# Altium integrated library Analog Devices Data Converters Analog-to-Digital Converters.IntLib: 2404 symbols (part 296 of 346)
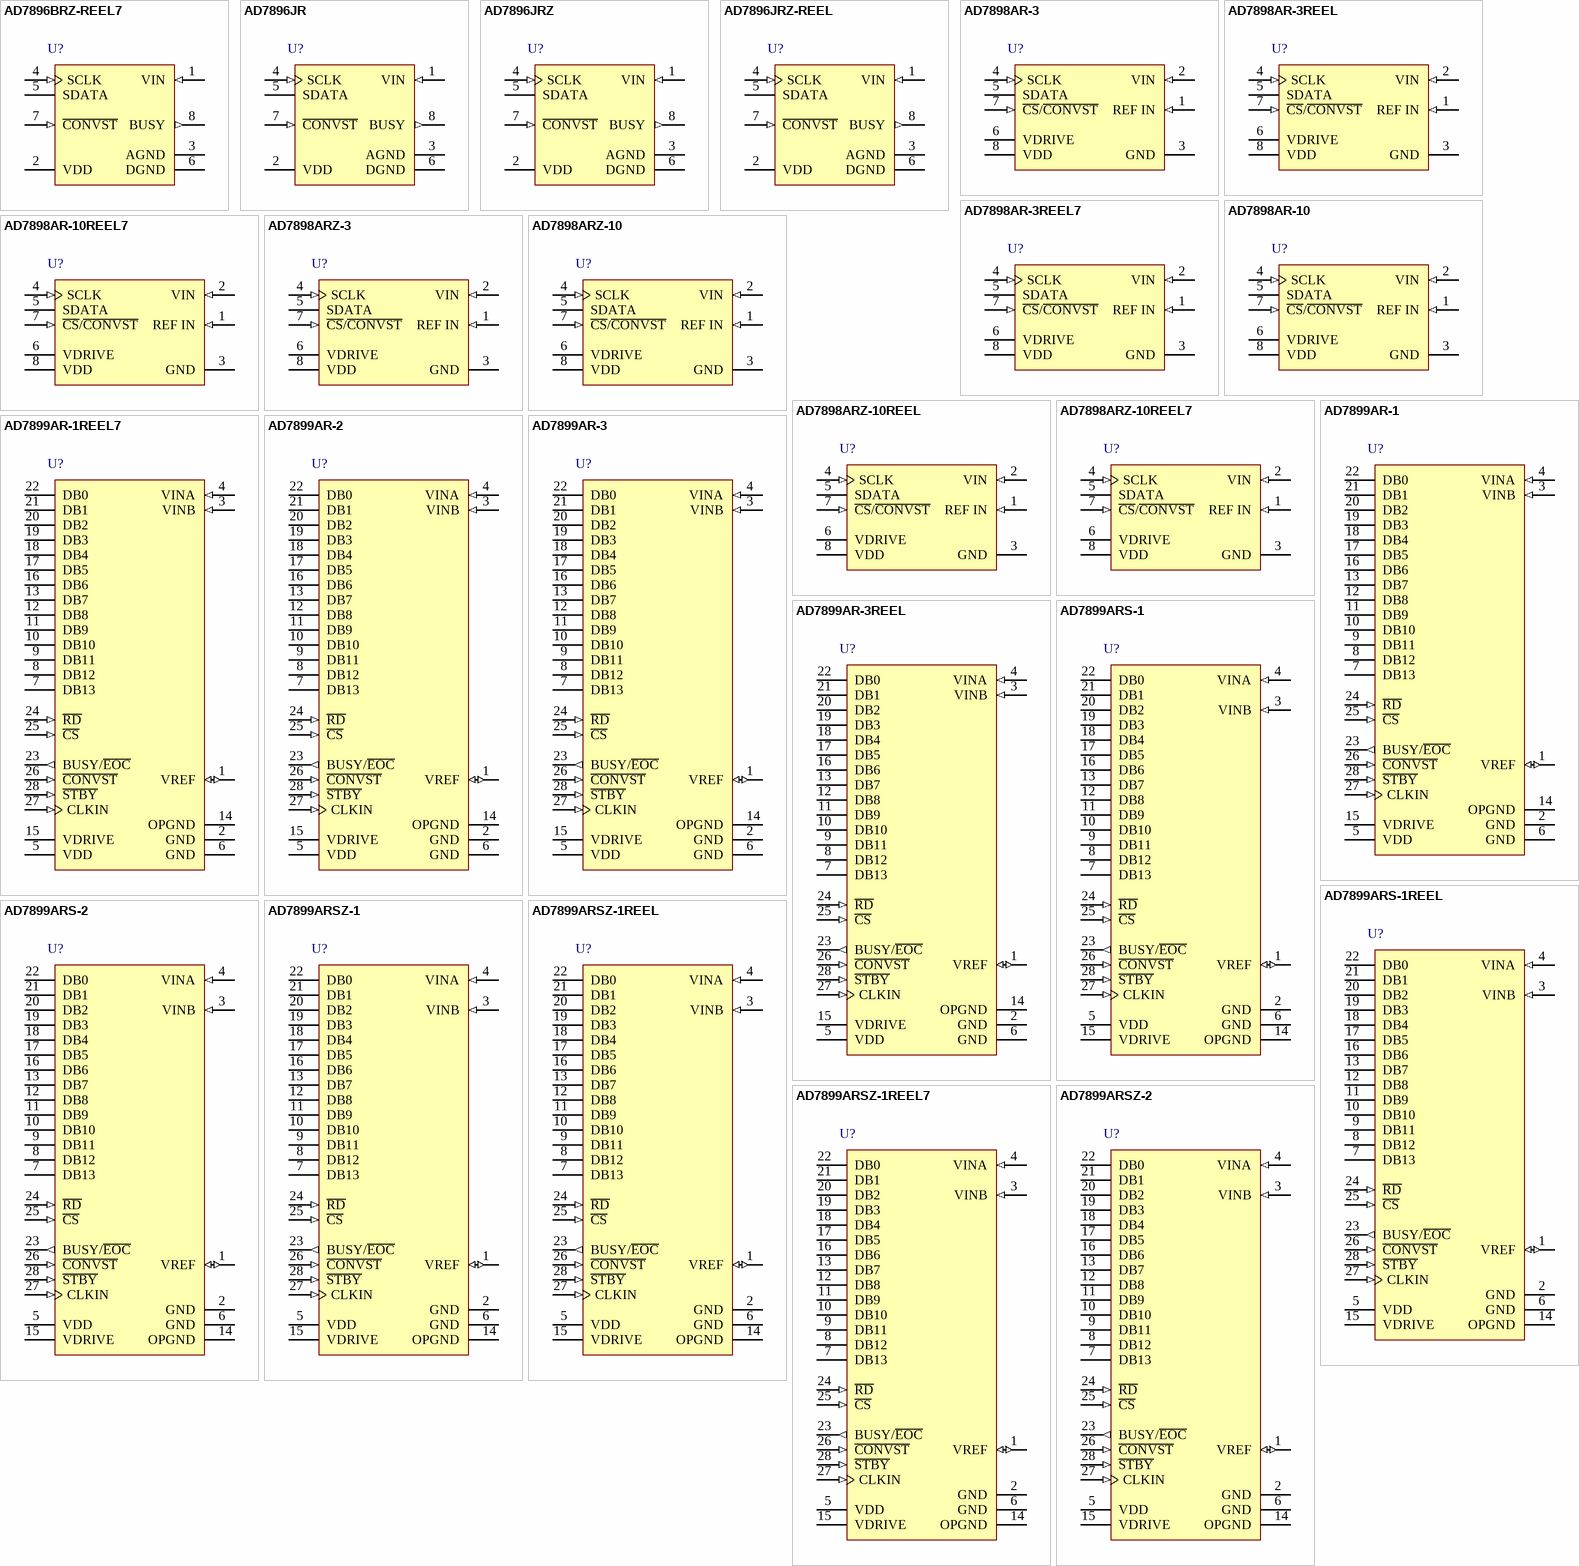
[diagram p413: symbols AD7896BRZ-REEL7 to AD7899ARSZ-2]

## AD7898ARZ-10
designator U?
Single 12-Bit Analog-to-Digital Converter with Serial Interface, 220KSPS, -40 to +85 degC, R-8, Pb-Free, Tube; Generic Part Number: AD7898; Manufacturer: Analog Devices; PartNumber: AD7898ARZ-10; Resolution (Bits): 12; Channels: 1; Throughput Rate (SPS): 220K; Interface: Ser; DatasheetVersion: Rev.A; PackageVersion: 060506-A; PackageReference: R-8; PackageDescription: 8-Lead Standard Small Outline Package [SOIC_N] Narrow Body; Supplier 1: Digi-Key; Supplier Part Number 1: AD7898ARZ-10-ND; Supplier 2: Newark; Supplier Part Number 2: 88H0076; Supplier 3: Mouser; Supplier Part Number 3: 584-AD7898ARZ-10; RoHS: Y; Packing: Tube; Mounting Technology: Surface Mount; Code_JEDEC: MS-012-AA; Code_IPC: SOIC127P600-8; ComponentLink1Description: Manufacturer URL; ComponentLink1URL: http://www.analog.com/en/index.html; ComponentLink2Description: Datasheet; ComponentLink2URL: http://www.analog.com/static/imported-files/data_sheets/AD7898.pdf; ComponentLink3Description: Package Specification; ComponentLink3URL: http://www.analog.com/static/imported-files/packages/PKG_PDF/SOIC_Narrow%20(R)/R_8.pdf; ComponentLink4Description: Product URL; ComponentLink4URL: http://www.analog.com/en/analog-to-digital-converters/ad-converters/ad7898/products/product.html
footprint R-8_N (SOIC, 8-Leads, Body 4.9x3.9mm, Pitch 1.27mm, IPC Medium Density)
footprint R-8_L (SOIC, 8-Leads, Body 4.9x3.9mm, Pitch 1.27mm, IPC High Density)
footprint R-8_M (SOIC, 8-Leads, Body 4.9x3.9mm, Pitch 1.27mm, IPC Low Density)
pins: 1 REF IN (in) "Voltage Reference Input. An external reference source should be connected to this pin to provide the reference voltage for the AD7898’s conversion process. The REF IN input is buffered on-chip. The nominal reference voltage (See Datasheet)", 2 VIN (in) "Analog Input Channel. The analog input range is +/-10 V (AD7898-10) and +/-2.5 V (AD7898-3).", 3 GND (power) "Analog Ground. Ground reference for track/hold, comparator, digital circuitry, and DAC.", 4 SCLK (in) "Serial Clock Input. An external serial clock is applied to this input to obtain serial data from the AD7898. When in Mode 0 operation, a new serial data bit is clocked out on the falling edge of this serial clock. In Mode 0, (See Datasheet)", 5 SDATA (hiz) "Serial Data Output. Serial data from the AD7898 is provided at this output. The serial data is clocked out by the falling edge of SCLK, but the data can also be read on the falling edge of SCLK. This is possible because data (See Datasheet)", 6 VDRIVE (power) "Logic Power Supply Input. The voltage supplied at this pin determines at what voltage the serial interface of the AD7898 will operate.", 7 ~{CS}/~{CONVST} (in) "Chip Select/Convert Start. This pin is C\O\N\V\S\T\, an edge-triggered logic input when in Mode 0 operation. On the falling edge of this input, the track/hold goes into its hold mode, and conversion is initiated. When in (See Datasheet)", 8 VDD (power) "Power Supply Input, 5 V +/- 5%."

## AD7898ARZ-10REEL
designator U?
Single 12-Bit Analog-to-Digital Converter with Serial Interface, 220KSPS, -40 to +85 degC, R-8, Pb-Free, Reel; Generic Part Number: AD7898; Manufacturer: Analog Devices; PartNumber: AD7898ARZ-10REEL; Resolution (Bits): 12; Channels: 1; Throughput Rate (SPS): 220K; Interface: Ser; DatasheetVersion: Rev.A; PackageVersion: 060506-A; PackageReference: R-8; PackageDescription: 8-Lead Standard Small Outline Package [SOIC_N] Narrow Body; Supplier 1: Digi-Key; Supplier Part Number 1: AD7898ARZ-10REEL-ND; Supplier 2: Mouser; Supplier Part Number 2: 584-AD7898ARZ-10R; RoHS: Y; Packing: Reel; Mounting Technology: Surface Mount; Code_JEDEC: MS-012-AA; Code_IPC: SOIC127P600-8; ComponentLink1Description: Manufacturer URL; ComponentLink1URL: http://www.analog.com/en/index.html; ComponentLink2Description: Datasheet; ComponentLink2URL: http://www.analog.com/static/imported-files/data_sheets/AD7898.pdf; ComponentLink3Description: Package Specification; ComponentLink3URL: http://www.analog.com/static/imported-files/packages/PKG_PDF/SOIC_Narrow%20(R)/R_8.pdf; ComponentLink4Description: Product URL; ComponentLink4URL: http://www.analog.com/en/analog-to-digital-converters/ad-converters/ad7898/products/product.html
footprint R-8_N (SOIC, 8-Leads, Body 4.9x3.9mm, Pitch 1.27mm, IPC Medium Density)
footprint R-8_L (SOIC, 8-Leads, Body 4.9x3.9mm, Pitch 1.27mm, IPC High Density)
footprint R-8_M (SOIC, 8-Leads, Body 4.9x3.9mm, Pitch 1.27mm, IPC Low Density)
pins: 1 REF IN (in) "Voltage Reference Input. An external reference source should be connected to this pin to provide the reference voltage for the AD7898’s conversion process. The REF IN input is buffered on-chip. The nominal reference voltage (See Datasheet)", 2 VIN (in) "Analog Input Channel. The analog input range is +/-10 V (AD7898-10) and +/-2.5 V (AD7898-3).", 3 GND (power) "Analog Ground. Ground reference for track/hold, comparator, digital circuitry, and DAC.", 4 SCLK (in) "Serial Clock Input. An external serial clock is applied to this input to obtain serial data from the AD7898. When in Mode 0 operation, a new serial data bit is clocked out on the falling edge of this serial clock. In Mode 0, (See Datasheet)", 5 SDATA (hiz) "Serial Data Output. Serial data from the AD7898 is provided at this output. The serial data is clocked out by the falling edge of SCLK, but the data can also be read on the falling edge of SCLK. This is possible because data (See Datasheet)", 6 VDRIVE (power) "Logic Power Supply Input. The voltage supplied at this pin determines at what voltage the serial interface of the AD7898 will operate.", 7 ~{CS}/~{CONVST} (in) "Chip Select/Convert Start. This pin is C\O\N\V\S\T\, an edge-triggered logic input when in Mode 0 operation. On the falling edge of this input, the track/hold goes into its hold mode, and conversion is initiated. When in (See Datasheet)", 8 VDD (power) "Power Supply Input, 5 V +/- 5%."

## AD7898ARZ-10REEL7
designator U?
Single 12-Bit Analog-to-Digital Converter with Serial Interface, 220KSPS, -40 to +85 degC, R-8, Pb-Free, Reel; Generic Part Number: AD7898; Manufacturer: Analog Devices; PartNumber: AD7898ARZ-10REEL7; Resolution (Bits): 12; Channels: 1; Throughput Rate (SPS): 220K; Interface: Ser; DatasheetVersion: Rev.A; PackageVersion: 060506-A; PackageReference: R-8; PackageDescription: 8-Lead Standard Small Outline Package [SOIC_N] Narrow Body; Supplier 1: Digi-Key; Supplier Part Number 1: AD7898ARZ-10REEL7-ND; RoHS: Y; Packing: Reel; Mounting Technology: Surface Mount; Code_JEDEC: MS-012-AA; Code_IPC: SOIC127P600-8; ComponentLink1Description: Manufacturer URL; ComponentLink1URL: http://www.analog.com/en/index.html; ComponentLink2Description: Datasheet; ComponentLink2URL: http://www.analog.com/static/imported-files/data_sheets/AD7898.pdf; ComponentLink3Description: Package Specification; ComponentLink3URL: http://www.analog.com/static/imported-files/packages/PKG_PDF/SOIC_Narrow%20(R)/R_8.pdf; ComponentLink4Description: Product URL; ComponentLink4URL: http://www.analog.com/en/analog-to-digital-converters/ad-converters/ad7898/products/product.html
footprint R-8_N (SOIC, 8-Leads, Body 4.9x3.9mm, Pitch 1.27mm, IPC Medium Density)
footprint R-8_L (SOIC, 8-Leads, Body 4.9x3.9mm, Pitch 1.27mm, IPC High Density)
footprint R-8_M (SOIC, 8-Leads, Body 4.9x3.9mm, Pitch 1.27mm, IPC Low Density)
pins: 1 REF IN (in) "Voltage Reference Input. An external reference source should be connected to this pin to provide the reference voltage for the AD7898’s conversion process. The REF IN input is buffered on-chip. The nominal reference voltage (See Datasheet)", 2 VIN (in) "Analog Input Channel. The analog input range is +/-10 V (AD7898-10) and +/-2.5 V (AD7898-3).", 3 GND (power) "Analog Ground. Ground reference for track/hold, comparator, digital circuitry, and DAC.", 4 SCLK (in) "Serial Clock Input. An external serial clock is applied to this input to obtain serial data from the AD7898. When in Mode 0 operation, a new serial data bit is clocked out on the falling edge of this serial clock. In Mode 0, (See Datasheet)", 5 SDATA (hiz) "Serial Data Output. Serial data from the AD7898 is provided at this output. The serial data is clocked out by the falling edge of SCLK, but the data can also be read on the falling edge of SCLK. This is possible because data (See Datasheet)", 6 VDRIVE (power) "Logic Power Supply Input. The voltage supplied at this pin determines at what voltage the serial interface of the AD7898 will operate.", 7 ~{CS}/~{CONVST} (in) "Chip Select/Convert Start. This pin is C\O\N\V\S\T\, an edge-triggered logic input when in Mode 0 operation. On the falling edge of this input, the track/hold goes into its hold mode, and conversion is initiated. When in (See Datasheet)", 8 VDD (power) "Power Supply Input, 5 V +/- 5%."

## AD7899AR-1
designator U?
Single 14-Bit Analog-to-Digital Converter with Parallel Interface, 5 V 400KSPS, -40 to +85 degC, RW-28, Tube; Generic Part Number: AD7899; Manufacturer: Analog Devices; PartNumber: AD7899AR-1; Resolution (Bits): 14; Channels: 1; Throughput Rate (SPS): 400K; Interface: Par; DatasheetVersion: Rev.A; PackageVersion: 060706-A; PackageReference: RW-28; PackageDescription: 28-Lead Standard Small Outline Package [SOIC_W]; Supplier 1: Digi-Key; Supplier Part Number 1: AD7899AR-1-ND; Supplier 2: Mouser; Supplier Part Number 2: 584-AD7899AR-1; RoHS: N; Packing: Tube; Mounting Technology: Surface Mount; Code_JEDEC: MS-013-AE; ComponentLink1Description: Manufacturer URL; ComponentLink1URL: http://www.analog.com/en/index.html; ComponentLink2Description: Datasheet; ComponentLink2URL: http://www.analog.com/static/imported-files/data_sheets/AD7899.pdf; ComponentLink3Description: Package Specification; ComponentLink3URL: http://www.analog.com/static/imported-files/packages/35833120341221RW_28.pdf; ComponentLink4Description: Product URL; ComponentLink4URL: http://www.analog.com/en/analog-to-digital-converters/ad-converters/ad7899/products/product.html
footprint RW-28_N (SOIC, 28-Leads, Body 17.9x7.5mm, Pitch 1.27mm, IPC Medium Density)
footprint RW-28_L (SOIC, 28-Leads, Body 17.9x7.5mm, Pitch 1.27mm, IPC High Density)
footprint RW-28_M (SOIC, 28-Leads, Body 17.9x7.5mm, Pitch 1.27mm, IPC Low Density)
pins: 1 VREF (io) "Reference Input/Output. This pin is provides access to the internal reference (2.5 V +/- 20 mV) and also allows the internal reference to be overdriven by an external reference source (2.5 V +/- 5%). A 0.1 uF decoupling (See Datasheet)", 2 GND (power) "Ground Pin. This pin should be connected to the system’s analog ground plane.", 3 VINB (in) "Analog Inputs. See Analog Input Section.", 4 VINA (in) "Analog Inputs. See Analog Input Section.", 5 VDD (power) "Positive Supply Voltage, 5.0 V +/- 5%.", 6 GND (power) "Ground Pin. This pin should be connected to the system’s analog ground plane.", 7 DB13 (hiz) "Data Bit 13 is the MSB, followed by Data Bit 12 to Data Bit 7. Three-state outputs.", 8 DB12 (hiz) "Data Bit 13 is the MSB, followed by Data Bit 12 to Data Bit 7. Three-state outputs.", 9 DB11 (hiz) "Data Bit 13 is the MSB, followed by Data Bit 12 to Data Bit 7. Three-state outputs.", 10 DB10 (hiz) "Data Bit 13 is the MSB, followed by Data Bit 12 to Data Bit 7. Three-state outputs.", 11 DB9 (hiz) "Data Bit 13 is the MSB, followed by Data Bit 12 to Data Bit 7. Three-state outputs.", 12 DB8 (hiz) "Data Bit 13 is the MSB, followed by Data Bit 12 to Data Bit 7. Three-state outputs.", 13 DB7 (hiz) "Data Bit 13 is the MSB, followed by Data Bit 12 to Data Bit 7. Three-state outputs.", 14 OPGND (power) "Output Driver Ground. This is the ground pin of the output drivers for D13 to D0 and BUSY/E\O\C\. It should be connected to the system’s analog ground plane .", 15 VDRIVE (power) "This pin provides the positive supply voltage for the digital inputs and outputs. It is normally tied to VDD but may also be powered by a 3 V +/- 10% supply which allows the inputs and outputs to be interfaced to 3 V (See Datasheet)", 16 DB6 (hiz) "Data Bit 6 to Data Bit 0. Three-state Outputs.", 17 DB5 (hiz) "Data Bit 6 to Data Bit 0. Three-state Outputs.", 18 DB4 (hiz) "Data Bit 6 to Data Bit 0. Three-state Outputs.", 19 DB3 (hiz) "Data Bit 6 to Data Bit 0. Three-state Outputs.", 20 DB2 (hiz) "Data Bit 6 to Data Bit 0. Three-state Outputs.", 21 DB1 (hiz) "Data Bit 6 to Data Bit 0. Three-state Outputs.", 22 DB0 (hiz) "Data Bit 6 to Data Bit 0. Three-state Outputs.", 23 BUSY/~{EOC} (out) "BUSY/E\O\C\ Output. Digital output pin used to signify that a conversion is in progress or that a conversion has finished. The function of the BUSY/E\O\C\ is determined by the state of C\O\N\V\S\T\ at the end of conversion. (See Datasheet)", 24 ~{RD} (in) "Read Input. Active low logic input which is used in conjunction with C\S\ low to enable the data outputs.", 25 ~{CS} (in) "Chip Select Input. Active low logic input. The device is selected when this input is active.", 26 ~{CONVST} (in) "Convert Start Input. Logic Input. A low to high transition on this input puts the track/hold into hold mode and starts conversion.", 27 CLKIN (in) "Conversion Clock Input. CLKIN is an externally applied clock which allows the user to control the conversion rate of the AD7899. If the CLKIN input is high on the rising edge of C\O\N\V\S\T\ an externally applied clock will (See Datasheet)", 28 ~{STBY} (in) "Standby Mode Input. Logic input which is used to put the device into the power save or standby mode. The S\T\B\Y\ input is high for normal operation and low for standby operation."

## AD7899AR-1REEL7
designator U?
Single 14-Bit Analog-to-Digital Converter with Parallel Interface, 5 V 400KSPS, -40 to +85 degC, RW-28, Reel; Generic Part Number: AD7899; Manufacturer: Analog Devices; PartNumber: AD7899AR-1REEL7; Resolution (Bits): 14; Channels: 1; Throughput Rate (SPS): 400K; Interface: Par; DatasheetVersion: Rev.A; PackageVersion: 060706-A; PackageReference: RW-28; PackageDescription: 28-Lead Standard Small Outline Package [SOIC_W]; Supplier 1: Mouser; Supplier Part Number 1: N/A; RoHS: N; Packing: Reel; Mounting Technology: Surface Mount; Code_JEDEC: MS-013-AE; ComponentLink1Description: Manufacturer URL; ComponentLink1URL: http://www.analog.com/en/index.html; ComponentLink2Description: Datasheet; ComponentLink2URL: http://www.analog.com/static/imported-files/data_sheets/AD7899.pdf; ComponentLink3Description: Package Specification; ComponentLink3URL: http://www.analog.com/static/imported-files/packages/35833120341221RW_28.pdf; ComponentLink4Description: Product URL; ComponentLink4URL: http://www.analog.com/en/analog-to-digital-converters/ad-converters/ad7899/products/product.html
footprint RW-28_N (SOIC, 28-Leads, Body 17.9x7.5mm, Pitch 1.27mm, IPC Medium Density)
footprint RW-28_L (SOIC, 28-Leads, Body 17.9x7.5mm, Pitch 1.27mm, IPC High Density)
footprint RW-28_M (SOIC, 28-Leads, Body 17.9x7.5mm, Pitch 1.27mm, IPC Low Density)
pins: 1 VREF (io) "Reference Input/Output. This pin is provides access to the internal reference (2.5 V +/- 20 mV) and also allows the internal reference to be overdriven by an external reference source (2.5 V +/- 5%). A 0.1 uF decoupling (See Datasheet)", 2 GND (power) "Ground Pin. This pin should be connected to the system’s analog ground plane.", 3 VINB (in) "Analog Inputs. See Analog Input Section.", 4 VINA (in) "Analog Inputs. See Analog Input Section.", 5 VDD (power) "Positive Supply Voltage, 5.0 V +/- 5%.", 6 GND (power) "Ground Pin. This pin should be connected to the system’s analog ground plane.", 7 DB13 (hiz) "Data Bit 13 is the MSB, followed by Data Bit 12 to Data Bit 7. Three-state outputs.", 8 DB12 (hiz) "Data Bit 13 is the MSB, followed by Data Bit 12 to Data Bit 7. Three-state outputs.", 9 DB11 (hiz) "Data Bit 13 is the MSB, followed by Data Bit 12 to Data Bit 7. Three-state outputs.", 10 DB10 (hiz) "Data Bit 13 is the MSB, followed by Data Bit 12 to Data Bit 7. Three-state outputs.", 11 DB9 (hiz) "Data Bit 13 is the MSB, followed by Data Bit 12 to Data Bit 7. Three-state outputs.", 12 DB8 (hiz) "Data Bit 13 is the MSB, followed by Data Bit 12 to Data Bit 7. Three-state outputs.", 13 DB7 (hiz) "Data Bit 13 is the MSB, followed by Data Bit 12 to Data Bit 7. Three-state outputs.", 14 OPGND (power) "Output Driver Ground. This is the ground pin of the output drivers for D13 to D0 and BUSY/E\O\C\. It should be connected to the system’s analog ground plane .", 15 VDRIVE (power) "This pin provides the positive supply voltage for the digital inputs and outputs. It is normally tied to VDD but may also be powered by a 3 V +/- 10% supply which allows the inputs and outputs to be interfaced to 3 V (See Datasheet)", 16 DB6 (hiz) "Data Bit 6 to Data Bit 0. Three-state Outputs.", 17 DB5 (hiz) "Data Bit 6 to Data Bit 0. Three-state Outputs.", 18 DB4 (hiz) "Data Bit 6 to Data Bit 0. Three-state Outputs.", 19 DB3 (hiz) "Data Bit 6 to Data Bit 0. Three-state Outputs.", 20 DB2 (hiz) "Data Bit 6 to Data Bit 0. Three-state Outputs.", 21 DB1 (hiz) "Data Bit 6 to Data Bit 0. Three-state Outputs.", 22 DB0 (hiz) "Data Bit 6 to Data Bit 0. Three-state Outputs.", 23 BUSY/~{EOC} (out) "BUSY/E\O\C\ Output. Digital output pin used to signify that a conversion is in progress or that a conversion has finished. The function of the BUSY/E\O\C\ is determined by the state of C\O\N\V\S\T\ at the end of conversion. (See Datasheet)", 24 ~{RD} (in) "Read Input. Active low logic input which is used in conjunction with C\S\ low to enable the data outputs.", 25 ~{CS} (in) "Chip Select Input. Active low logic input. The device is selected when this input is active.", 26 ~{CONVST} (in) "Convert Start Input. Logic Input. A low to high transition on this input puts the track/hold into hold mode and starts conversion.", 27 CLKIN (in) "Conversion Clock Input. CLKIN is an externally applied clock which allows the user to control the conversion rate of the AD7899. If the CLKIN input is high on the rising edge of C\O\N\V\S\T\ an externally applied clock will (See Datasheet)", 28 ~{STBY} (in) "Standby Mode Input. Logic input which is used to put the device into the power save or standby mode. The S\T\B\Y\ input is high for normal operation and low for standby operation."

## AD7899AR-2
designator U?
Single 14-Bit Analog-to-Digital Converter with Parallel Interface, 5 V 400KSPS, -40 to +85 degC, RW-28, Tube; Generic Part Number: AD7899; Manufacturer: Analog Devices; PartNumber: AD7899AR-2; Resolution (Bits): 14; Channels: 1; Throughput Rate (SPS): 400K; Interface: Par; DatasheetVersion: Rev.A; PackageVersion: 060706-A; PackageReference: RW-28; PackageDescription: 28-Lead Standard Small Outline Package [SOIC_W]; Supplier 1: Digi-Key; Supplier Part Number 1: AD7899AR-2-ND; Supplier 2: Newark; Supplier Part Number 2: 34C4942; RoHS: N; Packing: Tube; Mounting Technology: Surface Mount; Code_JEDEC: MS-013-AE; ComponentLink1Description: Manufacturer URL; ComponentLink1URL: http://www.analog.com/en/index.html; ComponentLink2Description: Datasheet; ComponentLink2URL: http://www.analog.com/static/imported-files/data_sheets/AD7899.pdf; ComponentLink3Description: Package Specification; ComponentLink3URL: http://www.analog.com/static/imported-files/packages/35833120341221RW_28.pdf; ComponentLink4Description: Product URL; ComponentLink4URL: http://www.analog.com/en/analog-to-digital-converters/ad-converters/ad7899/products/product.html
footprint RW-28_N (SOIC, 28-Leads, Body 17.9x7.5mm, Pitch 1.27mm, IPC Medium Density)
footprint RW-28_L (SOIC, 28-Leads, Body 17.9x7.5mm, Pitch 1.27mm, IPC High Density)
footprint RW-28_M (SOIC, 28-Leads, Body 17.9x7.5mm, Pitch 1.27mm, IPC Low Density)
pins: 1 VREF (io) "Reference Input/Output. This pin is provides access to the internal reference (2.5 V +/- 20 mV) and also allows the internal reference to be overdriven by an external reference source (2.5 V +/- 5%). A 0.1 uF decoupling (See Datasheet)", 2 GND (power) "Ground Pin. This pin should be connected to the system’s analog ground plane.", 3 VINB (in) "Analog Inputs. See Analog Input Section.", 4 VINA (in) "Analog Inputs. See Analog Input Section.", 5 VDD (power) "Positive Supply Voltage, 5.0 V +/- 5%.", 6 GND (power) "Ground Pin. This pin should be connected to the system’s analog ground plane.", 7 DB13 (hiz) "Data Bit 13 is the MSB, followed by Data Bit 12 to Data Bit 7. Three-state outputs.", 8 DB12 (hiz) "Data Bit 13 is the MSB, followed by Data Bit 12 to Data Bit 7. Three-state outputs.", 9 DB11 (hiz) "Data Bit 13 is the MSB, followed by Data Bit 12 to Data Bit 7. Three-state outputs.", 10 DB10 (hiz) "Data Bit 13 is the MSB, followed by Data Bit 12 to Data Bit 7. Three-state outputs.", 11 DB9 (hiz) "Data Bit 13 is the MSB, followed by Data Bit 12 to Data Bit 7. Three-state outputs.", 12 DB8 (hiz) "Data Bit 13 is the MSB, followed by Data Bit 12 to Data Bit 7. Three-state outputs.", 13 DB7 (hiz) "Data Bit 13 is the MSB, followed by Data Bit 12 to Data Bit 7. Three-state outputs.", 14 OPGND (power) "Output Driver Ground. This is the ground pin of the output drivers for D13 to D0 and BUSY/E\O\C\. It should be connected to the system’s analog ground plane .", 15 VDRIVE (power) "This pin provides the positive supply voltage for the digital inputs and outputs. It is normally tied to VDD but may also be powered by a 3 V +/- 10% supply which allows the inputs and outputs to be interfaced to 3 V (See Datasheet)", 16 DB6 (hiz) "Data Bit 6 to Data Bit 0. Three-state Outputs.", 17 DB5 (hiz) "Data Bit 6 to Data Bit 0. Three-state Outputs.", 18 DB4 (hiz) "Data Bit 6 to Data Bit 0. Three-state Outputs.", 19 DB3 (hiz) "Data Bit 6 to Data Bit 0. Three-state Outputs.", 20 DB2 (hiz) "Data Bit 6 to Data Bit 0. Three-state Outputs.", 21 DB1 (hiz) "Data Bit 6 to Data Bit 0. Three-state Outputs.", 22 DB0 (hiz) "Data Bit 6 to Data Bit 0. Three-state Outputs.", 23 BUSY/~{EOC} (out) "BUSY/E\O\C\ Output. Digital output pin used to signify that a conversion is in progress or that a conversion has finished. The function of the BUSY/E\O\C\ is determined by the state of C\O\N\V\S\T\ at the end of conversion. (See Datasheet)", 24 ~{RD} (in) "Read Input. Active low logic input which is used in conjunction with C\S\ low to enable the data outputs.", 25 ~{CS} (in) "Chip Select Input. Active low logic input. The device is selected when this input is active.", 26 ~{CONVST} (in) "Convert Start Input. Logic Input. A low to high transition on this input puts the track/hold into hold mode and starts conversion.", 27 CLKIN (in) "Conversion Clock Input. CLKIN is an externally applied clock which allows the user to control the conversion rate of the AD7899. If the CLKIN input is high on the rising edge of C\O\N\V\S\T\ an externally applied clock will (See Datasheet)", 28 ~{STBY} (in) "Standby Mode Input. Logic input which is used to put the device into the power save or standby mode. The S\T\B\Y\ input is high for normal operation and low for standby operation."